# EAGLE library part 1X6 (library LARS_409_CONNECTORS)
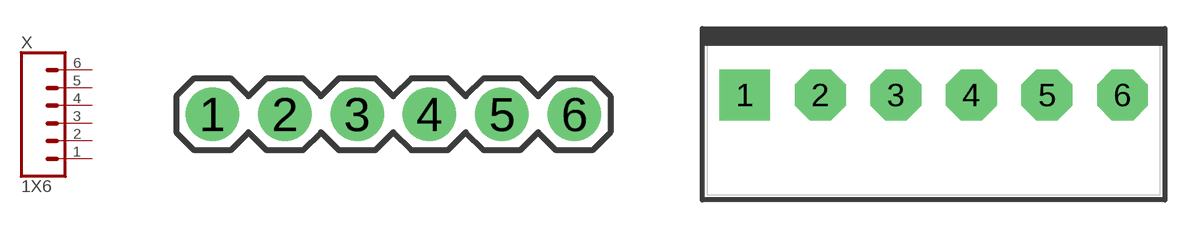
[diagram p0: symbol with the pads of 1X06DUPON; footprints 1X06DUPON, JST-B6P-VH]

Designator prefix X

## 1X6DUPON  [1X06DUPON]
1  1  pas
2  2  pas
3  3  pas
4  4  pas
5  5  pas
6  6  pas

## 1X6B6P-VH  [JST-B6P-VH]
Pads as for 1X06DUPON

## 1X6MOLEX-06  [MOLEX-06]
Pads as for 1X06DUPON

## 1X6JST-XH-06  [JST-XH-06]
Pads as for 1X06DUPON

## 1X6MOLEX-3X2H  [MOLEX-2X3H]
P$1  1  pas
P$2  2  pas
P$3  3  pas
P$4  4  pas
P$5  5  pas
P$6  6  pas

## 1X6DEGSON-06P  [DEGSON-06P]
Pads as for MOLEX-2X3H

## 1X6MOLEX-2X3V  [MOLEX-2X3V]
1  1  pas
2  2  pas
3  3  pas
7  6  pas
8  5  pas
9  4  pas

## 1X6JST_S6B-EN(LF)(SN)  [JST_S6B-EH(LF)(SN)]
Pads as for 1X06DUPON

## 1X6WF-6  [WF-6]
Pads as for MOLEX-2X3H

## Footprint 1X06DUPON (pad centres in mm)
drill 1.016 pad 1.88: 1 0,0; 2 2.54,0; 3 5.08,0; 4 7.62,0; 5 10.16,0; 6 12.7,0

## Footprint JST-B6P-VH (pad centres in mm)
HEADER
drill 1.778 square: 1 -9.9,0
drill 1.778 octagon: 2 -5.94,0; 3 -1.98,0; 4 1.98,0; 5 5.94,0; 6 9.9,0

## Footprint MOLEX-06 (pad centres in mm)
KK® 254 Solid Header, Vertical, with Friction Lock, 6 Circuits, Tin (Sn) Plating Datasheet <http://www.molex.com/pdm_docs/sd/022232061_sd.pdf>
drill 1 long: 1 -6.35,0; 2 -3.81,0; 3 -1.27,0; 4 1.27,0; 5 3.81,0; 6 6.35,0

## Footprint JST-XH-06 (pad centres in mm)
JST XH Connector Long Pads (Package) Wire to board connector. Pitch: 2,54 mm, (0.100") Number of pins: 6 Created by Rembrandt Electronics www.rembrandtelectronics.com
drill 1.016 long: 1 -6.35,0; 2 -3.81,0; 3 -1.27,0; 4 1.27,0; 5 3.81,0; 6 6.35,0

## Footprint MOLEX-2X3H (pad centres in mm)
drill 2 pad 3.5: P$1 -4.2,12.8; P$2 0,12.8; P$3 4.2,12.8
drill 2 pad 3.5 offset: P$4 -4.2,8.4; P$5 0,8.4; P$6 4.2,8.4
hole 3.1 at -4.2,0
hole 3.1 at 4.2,0

## Footprint DEGSON-06P (pad centres in mm)
drill 1.3 long: P$1 -20.625,0; P$2 -12.375,0; P$3 -4.125,0; P$4 4.125,0; P$5 12.375,0; P$6 20.625,0
hole 3 at -28.875,0
hole 3 at 28.875,0

## Footprint MOLEX-2X3V (pad centres in mm)
drill 2 pad 3.3: 1 4.2,-2.75; 2 0,-2.75; 3 -4.2,-2.75
drill 2 pad 3.3 offset: 7 -4.2,1.65; 8 0,1.65; 9 4.2,1.65

## Footprint JST_S6B-EH(LF)(SN) (pad centres in mm)
drill 1 pad 1.5 square: 1 -5,0
drill 1 pad 1.5: 2 -2.5,0; 3 0,0; 4 2.5,0; 5 5,0; 6 7.5,0

## Footprint WF-6 (pad centres in mm)
drill 0.8 pad 1.8: P$1 0,0; P$2 2.54,0; P$3 5.08,0; P$4 7.62,0; P$5 10.16,0; P$6 12.7,0